# EAGLE library part IDT7006 (library 68komputer)
IDT7006 – 16K x 8 Dual Port SRAM For master operation, tie M/S to VCC. Datasheet <https://www.idt.com/document/dst/7006-data-sheet>
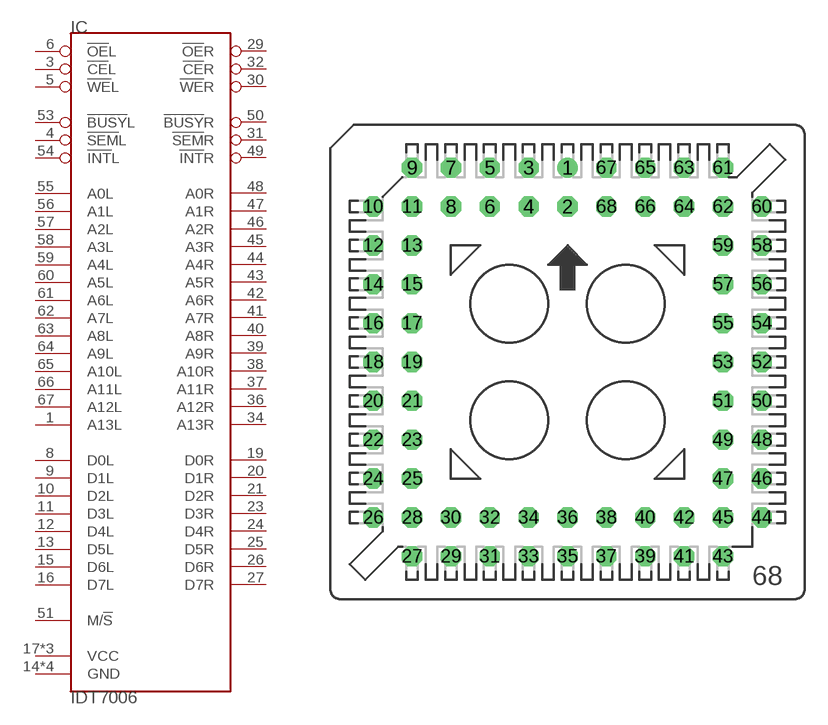
[diagram p23: symbol with the pads of PLCC68-S; footprint PLCC68-S]

Designator prefix IC

## IDT7006PLCC68-S (VALUE: IDT7006)  [PLCC68-S]
1  A13L  in
3  !CE!L  in
4  !SEM!L  out
5  !WE!L  in
6  !OE!L  in
8  D0L
9  D1L
10  D2L
11  D3L
12  D4L
13  D5L
14  GND  pwr
15  D6L
16  D7L
17  VCC  pwr
18  GND  pwr
19  D0R
20  D1R
21  D2R
22  VCC  pwr
23  D3R
24  D4R
25  D5R
26  D6R
27  D7R
29  !OE!R  in
30  !WE!R  in
31  !SEM!R  out
32  !CE!R  in
34  A13R  in
35  GND  pwr
36  A12R  in
37  A11R  in
38  A10R  in
39  A9R  in
40  A8R  in
41  A7R  in
42  A6R  in
43  A5R  in
44  A4R  in
45  A3R  in
46  A2R  in
47  A1R  in
48  A0R  in
49  !INT!R  in
50  !BUSY!R  out
51  M/!S!  in
52  GND  pwr
53  !BUSY!L  out
54  !INT!L  in
55  A0L  in
56  A1L  in
57  A2L  in
58  A3L  in
59  A4L  in
60  A5L  in
61  A6L  in
62  A7L  in
63  A8L  in
64  A9L  in
65  A10L  in
66  A11L  in
67  A12L  in
68  VCC  pwr

## Footprint PLCC68-S (pad centres in mm)
PLCC Socked
drill 0.813: 1 0,12.7
drill 0.813 octagon: 2 0,10.16; 3 -2.54,12.7; 4 -2.54,10.16; 5 -5.08,12.7; 6 -5.08,10.16; 7 -7.62,12.7; 8 -7.62,10.16; 9 -10.16,12.7; 10 -12.7,10.16; 11 -10.16,10.16; 12 -12.7,7.62; 13 -10.16,7.62; 14 -12.7,5.08; 15 -10.16,5.08; 16 -12.7,2.54; 17 -10.16,2.54; 18 -12.7,0; 19 -10.16,0; 20 -12.7,-2.54; 21 -10.16,-2.54; 22 -12.7,-5.08; 23 -10.16,-5.08; 24 -12.7,-7.62; 25 -10.16,-7.62; 26 -12.7,-10.16; 27 -10.16,-12.7; 28 -10.16,-10.16; 29 -7.62,-12.7; 30 -7.62,-10.16; 31 -5.08,-12.7; 32 -5.08,-10.16; 33 -2.54,-12.7; 34 -2.54,-10.16; 35 0,-12.7; 36 0,-10.16; 37 2.54,-12.7; 38 2.54,-10.16; 39 5.08,-12.7; 40 5.08,-10.16; 41 7.62,-12.7; 42 7.62,-10.16; 43 10.16,-12.7; 44 12.7,-10.16; 45 10.16,-10.16; 46 12.7,-7.62; 47 10.16,-7.62; 48 12.7,-5.08; 49 10.16,-5.08; 50 12.7,-2.54; 51 10.16,-2.54; 52 12.7,0; 53 10.16,0; 54 12.7,2.54; 55 10.16,2.54; 56 12.7,5.08; 57 10.16,5.08; 58 12.7,7.62; 59 10.16,7.62; 60 12.7,10.16; 61 10.16,12.7; 62 10.16,10.16; 63 7.62,12.7; 64 7.62,10.16; 65 5.08,12.7; 66 5.08,10.16; 67 2.54,12.7; 68 2.54,10.16